# EAGLE library part W5100 (library SparkFun-DigitalIC)
WIZnet W5100 TCP/IP PHY Embedded Chip See SparkFun catalog # COM-09471 Package: LQFP-80,10x10mm, 0.4mm pitch
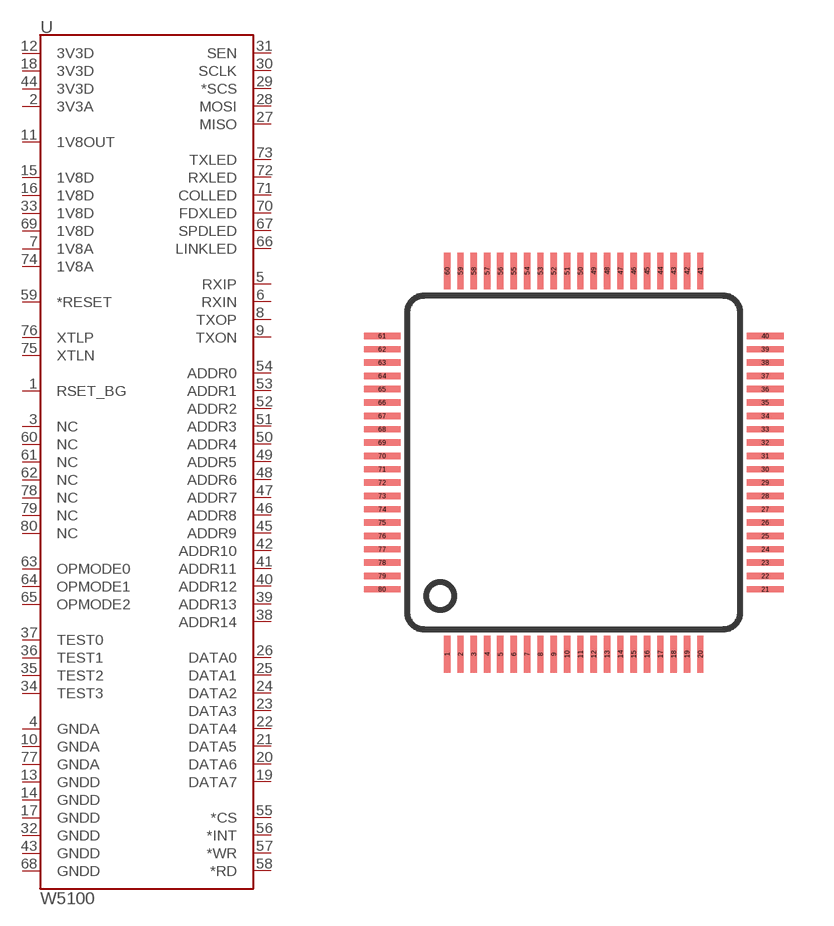
[diagram p75: symbol with the pads of LQFP-80; footprint LQFP-80]

Designator prefix U

## W5100  [LQFP-80]
1  RSET_BG
2  3V3A
3  NC
4  GNDA
5  RXIP
6  RXIN
7  1V8A
8  TXOP
9  TXON
10  GNDA
11  1V8OUT
12  3V3D
13  GNDD
14  GNDD
15  1V8D
16  1V8D
17  GNDD
18  3V3D
19  DATA7
20  DATA6
21  DATA5
22  DATA4
23  DATA3
24  DATA2
25  DATA1
26  DATA0
27  MISO
28  MOSI
29  *SCS
30  SCLK
31  SEN
32  GNDD
33  1V8D
34  TEST3
35  TEST2
36  TEST1
37  TEST0
38  ADDR14
39  ADDR13
40  ADDR12
41  ADDR11
42  ADDR10
43  GNDD
44  3V3D
45  ADDR9
46  ADDR8
47  ADDR7
48  ADDR6
49  ADDR5
50  ADDR4
51  ADDR3
52  ADDR2
53  ADDR1
54  ADDR0
55  *CS
56  *INT
57  *WR
58  *RD
59  *RESET
60  NC
61  NC
62  NC
63  OPMODE0
64  OPMODE1
65  OPMODE2
66  LINKLED
67  SPDLED
68  GNDD
69  1V8D
70  FDXLED
71  COLLED
72  RXLED
73  TXLED
74  1V8A
75  XTLN
76  XTLP
77  GNDA
78  NC
79  NC
80  NC

## Footprint LQFP-80 (pad centres in mm)
LQFP-80 80-pin, 10x10mm, 0.4mm pitch, SMD package Used for WIZnet W5100 (COM-09471) http://www.sparkfun.com/products/9471 ***UNPROVEN***
smd 0.19 x 1.1: 1 -3.8,-5.75; 2 -3.4,-5.75; 3 -3,-5.75; 4 -2.6,-5.75; 5 -2.2,-5.75; 6 -1.8,-5.75; 7 -1.4,-5.75; 8 -1,-5.75; 9 -0.6,-5.75; 10 -0.2,-5.75; 11 0.2,-5.75; 12 0.6,-5.75; 13 1,-5.75; 14 1.4,-5.75; 15 1.8,-5.75; 16 2.2,-5.75; 17 2.6,-5.75; 18 3,-5.75; 19 3.4,-5.75; 20 3.8,-5.75; 41 3.8,5.75; 42 3.4,5.75; 43 3,5.75; 44 2.6,5.75; 45 2.2,5.75; 46 1.8,5.75; 47 1.4,5.75; 48 1,5.75; 49 0.6,5.75; 50 0.2,5.75; 51 -0.2,5.75; 52 -0.6,5.75; 53 -1,5.75; 54 -1.4,5.75; 55 -1.8,5.75; 56 -2.2,5.75; 57 -2.6,5.75; 58 -3,5.75; 59 -3.4,5.75; 60 -3.8,5.75
smd 1.1 x 0.19: 21 5.75,-3.8; 22 5.75,-3.4; 23 5.75,-3; 24 5.75,-2.6; 25 5.75,-2.2; 26 5.75,-1.8; 27 5.75,-1.4; 28 5.75,-1; 29 5.75,-0.6; 30 5.75,-0.2; 31 5.75,0.2; 32 5.75,0.6; 33 5.75,1; 34 5.75,1.4; 35 5.75,1.8; 36 5.75,2.2; 37 5.75,2.6; 38 5.75,3; 39 5.75,3.4; 40 5.75,3.8; 61 -5.75,3.8; 62 -5.75,3.4; 63 -5.75,3; 64 -5.75,2.6; 65 -5.75,2.2; 66 -5.75,1.8; 67 -5.75,1.4; 68 -5.75,1; 69 -5.75,0.6; 70 -5.75,0.2; 71 -5.75,-0.2; 72 -5.75,-0.6; 73 -5.75,-1; 74 -5.75,-1.4; 75 -5.75,-1.8; 76 -5.75,-2.2; 77 -5.75,-2.6; 78 -5.75,-3; 79 -5.75,-3.4; 80 -5.75,-3.8